# EAGLE library part USB-B (library chinese-con)
USB Mini-B, Micro-B connectors with Frame GND.
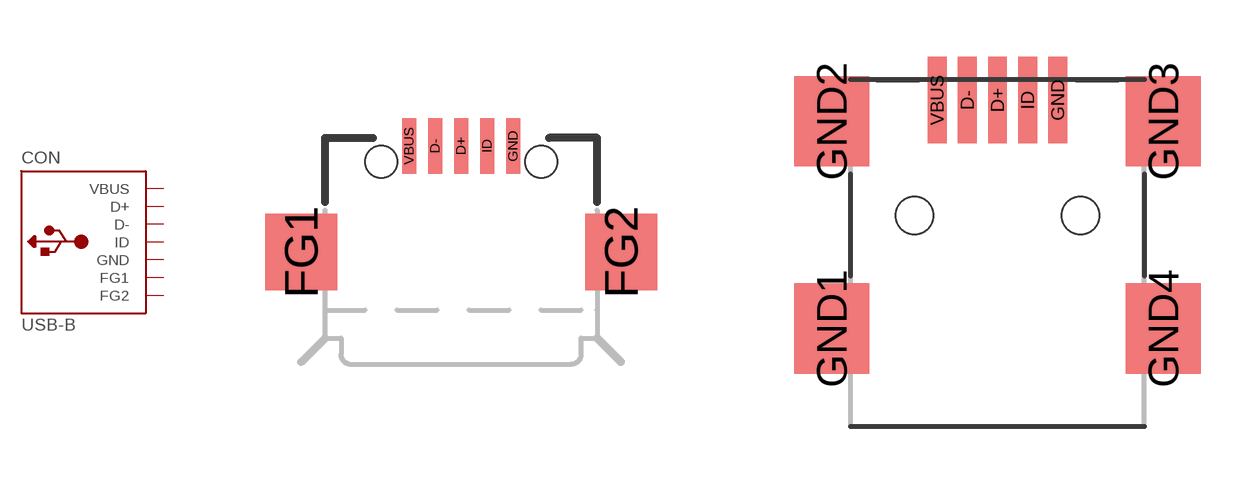
[diagram p1: symbol with the pads of USB_MICRO_B; footprints USB_MICRO_B, USB_MINI_B]

Designator prefix CON

## USB-B-MICRO  [USB_MICRO_B]
D+  D+
D-  D-
FG1  FG1  pwr
FG2  FG2  pwr
GND  GND  pwr
ID  ID
VBUS  VBUS  pwr

## USB-B-MINI  [USB_MINI_B]
D+  D+
D-  D-
GND  GND  pwr
GND2  FG1  pwr
GND3  FG2  pwr
ID  ID
VBUS  VBUS  pwr

## Footprint USB_MICRO_B (pad centres in mm)
The short-dash line means recommended "edge of PCB".
smd 0.35 x 1.4: D+ 0,2.11; D- -0.65,2.11; GND 1.3,2.11; ID 0.65,2.11; VBUS -1.3,2.11
smd 1.8 x 1.9: FG1 -4,-0.54; FG2 4,-0.54
hole 0.8 at -2,1.71
hole 0.8 at 2,1.71

## Footprint USB_MINI_B (pad centres in mm)
Two square pads near the USB signal pads are connected to Frame GND.
smd 0.5 x 2.308: D+ 0.08,3.254; D- -0.72,3.254; GND 1.68,3.254; ID 0.88,3.254; VBUS -1.52,3.254
smd 2 x 2.4: GND1 -4.32,-2.81; GND2 -4.32,2.69; GND3 4.48,2.69; GND4 4.48,-2.81
hole 1 at -2.12,0.19
hole 1 at 2.28,0.19